# EAGLE library part HCPL-0900 (library 1A-meinLib)
SMD High Speed Isolator, 100MBaud, 6ns propagation delay, 2500V RMs ISOLATION, Agilent, AVAGO
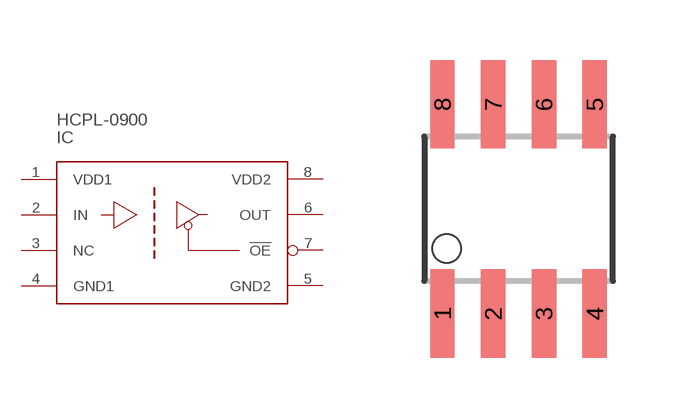
[diagram p81: symbol with the pads of SO08; footprint SO08]

Designator prefix IC

## HCPL-0900  [SO08]
1  VDD1  pwr
2  IN  in
3  NC  pas
4  GND1  pwr
5  GND2  pwr
6  OUT  out
7  !OE  pas
8  VDD2  pwr

## Footprint SO08 (pad centres in mm)
Small Outline Package
smd 0.61 x 2.21: 1 -1.905,-2.616; 2 -0.635,-2.616; 3 0.635,-2.616; 4 1.905,-2.616; 5 1.905,2.616; 6 0.635,2.616; 7 -0.635,2.616; 8 -1.905,2.616